# EAGLE library part RF2500T (library aurigaBot)
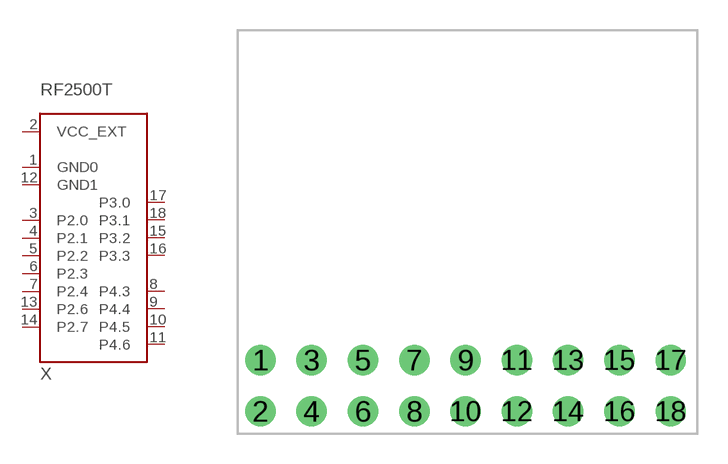
[diagram p13: symbol with the pads of RF2500T_OUTLINE; footprint RF2500T_OUTLINE]

Designator prefix X

## RF2500T_EXT  [RF2500T_OUTLINE]
1  GND0  pwr
2  VCC_EXT  pwr
3  P2.0
4  P2.1
5  P2.2
6  P2.3
7  P2.4
8  P4.3
9  P4.4
10  P4.5
11  P4.6
12  GND1  pwr
13  P2.6
14  P2.7
15  P3.2
16  P3.3
17  P3.0
18  P3.1

## Footprint RF2500T_OUTLINE (pad centres in mm)
drill 1 pad 1.5 round: 1 1.12,3.65; 2 1.12,1.11; 3 3.66,3.65; 4 3.66,1.11; 5 6.2,3.65; 6 6.2,1.11; 7 8.74,3.65; 8 8.74,1.11; 9 11.28,3.65; 10 11.28,1.11; 11 13.82,3.65; 12 13.82,1.11; 13 16.36,3.65; 14 16.36,1.11; 15 18.9,3.65; 16 18.9,1.11; 17 21.44,3.65; 18 21.44,1.11